# Altium schematic symbol library NCV8730.SchLib: 1 symbol
Pins are listed as number, name and electrical type; pins without a type are passive.

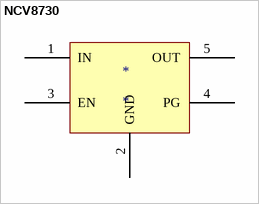
[diagram p0: symbol NCV8730]

## NCV8730
designator *
5V LDO
footprint TSSOP5
pins: 1 IN, 2 GND, 3 EN, 4 PG, 5 OUT